# Altium schematic symbol library TPS566242DRLR.SchLib: 2 symbols
Pins are listed as number, name and electrical type; pins without a type are passive.

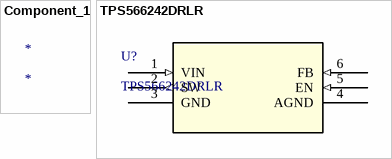
[diagram p0: symbols Component_1 to TPS566242DRLR]

## Component_1
designator *

## TPS566242DRLR
designator U?
No Description Available; Mfr_Name: Texas Instruments; Copyright: Copyright (C) 2022 Ultra Librarian. All rights reserved.; Manufacturer_Part_Number: TPS566242DRLR; RefDes: RefDes; Type: DEV
footprint SOT5x3_DRL_TEX
pins: 1 VIN (in), 2 SW (out), 3 GND, 4 AGND, 5 EN (in), 6 FB (in)